# Altium integrated library SN74LS04DR.IntLib: 1 symbol
Pins are listed as number, name and electrical type; pins without a type are passive.

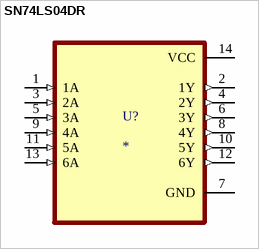
[diagram p0: symbol SN74LS04DR]

## SN74LS04DR
designator U?
6-ch, 4.75-V to 5.25-V bipolar inverters; MP: SN74LS04DR; MF: Texas Instruments; Value: *; Package: SOIC-14 Texas Instruments; Purchase-URL: https://pricing.snapeda.com/search/part/SN74LS04DR/?ref=eda; Availability: In Stock; Check_prices: https://www.snapeda.com/parts/SN74LS04DR/Texas+Instruments/view-part/?ref=eda; SnapEDA_Link: https://www.snapeda.com/parts/SN74LS04DR/Texas+Instruments/view-part/?ref=snap; Price: None
footprint SOIC127P600X175-14N
pins: 1 1A (in), 2 1Y (out), 3 2A (in), 4 2Y (out), 5 3A (in), 6 3Y (out), 7 GND (power), 8 4Y (out), 9 4A (in), 10 5Y (out), 11 5A (in), 12 6Y (out), 13 6A (in), 14 VCC (power)